# Altium integrated library Holtek Semiconductor Power Management.IntLib: 165 symbols (part 1 of 3)
Pins are listed as number, name and electrical type; pins without a type are passive.

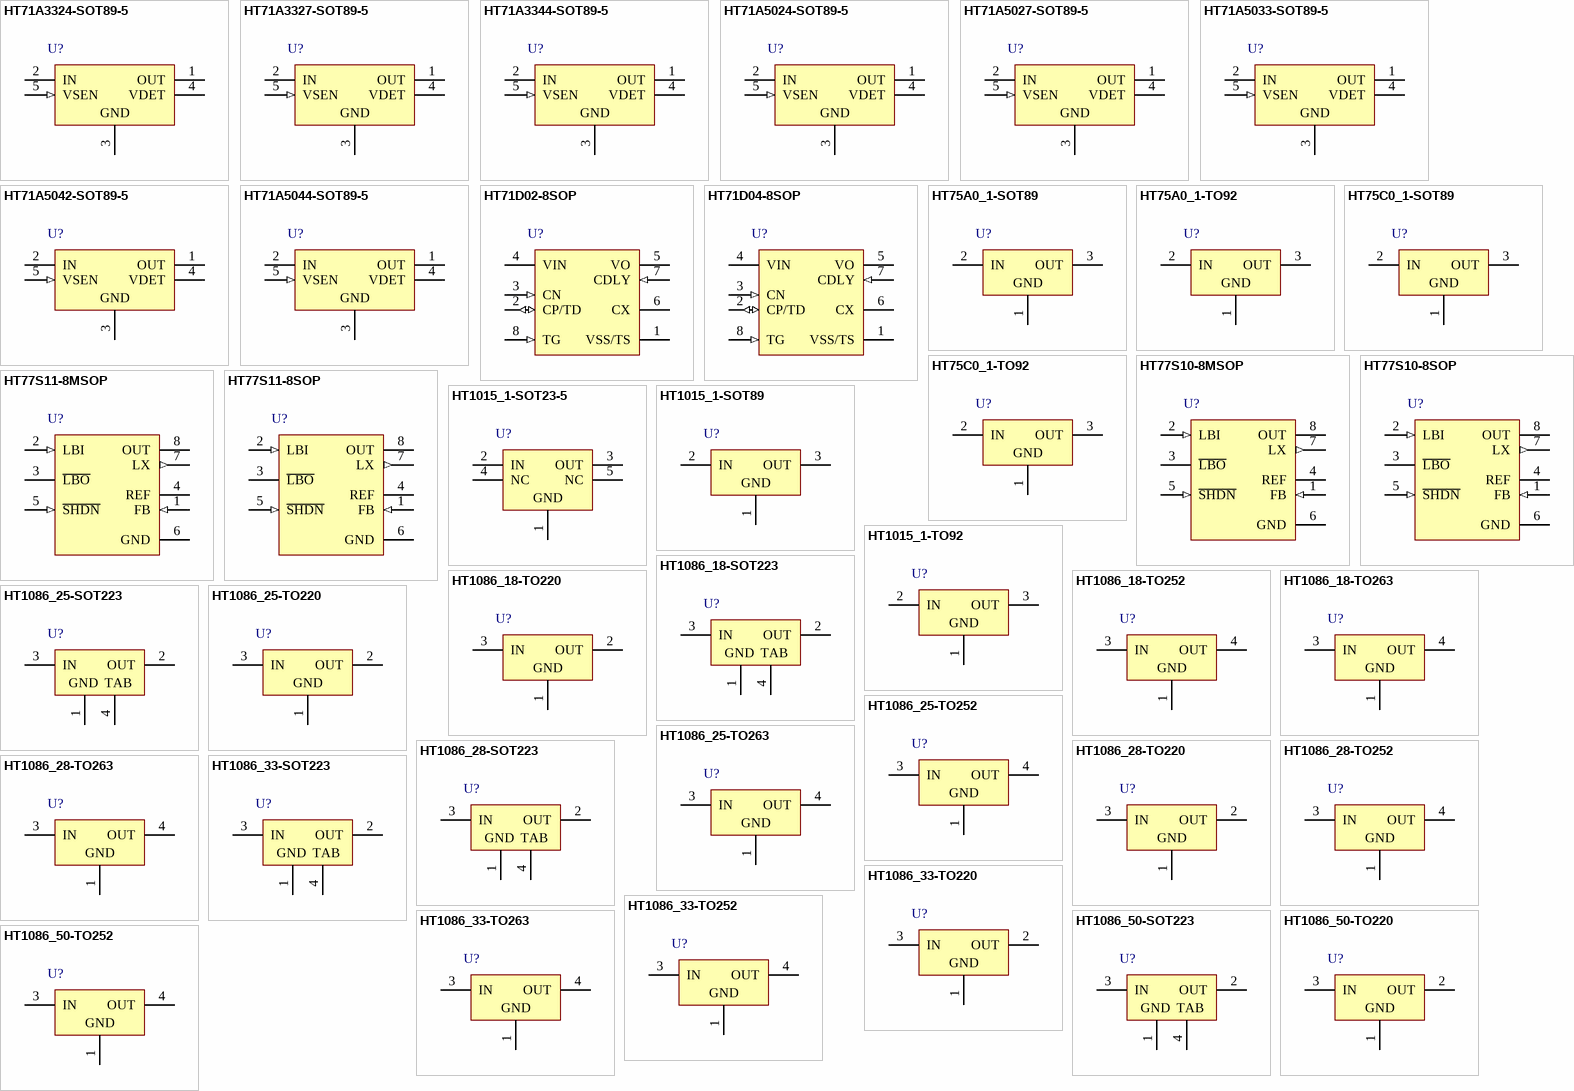
[diagram p0: symbols HT71A3324-SOT89-5 to HT1086_50-TO252]

## HT71A3324-SOT89-5
designator U?
TinyPowerTM LDO with Detector, 3.3V Regulator, 2.4V Voltage Detector, SOT89-5 Pkg; DatasheetVersion: Rev1.0, Dec-2009; PackageVersion: 25/05/2010; PackageReference: SOT89-5; PackageDescription: 5-Pin SOT-89 Package, 4.5 x 2.5 mm Body, 1.5 mm Pitch, 4.1 mm Lead Span; ComponentLink1Description: Manufacturer URL; ComponentLink1URL: http://www.holtek.com/; ComponentLink2Description: Datasheet; ComponentLink2URL: http://www.holtek.com/pdf/consumer/71axxxxv100.pdf; ComponentLink3Description: Package Specification; ComponentLink3URL: http://www.holtek.com/english/literature/package.pdf
footprint SOT89-5_N (SOT89, 5-Leads, Body 4.5x2.5 mm, Pitch 1.5mm, Lead Span 4.1mm, IPC Medium Density)
footprint SOT89-5_L (SOT89, 5-Leads, Body 4.5x2.5 mm, Pitch 1.5mm, Lead Span 4.1mm, IPC High Density)
footprint SOT89-5_M (SOT89, 5-Leads, Body 4.5x2.5 mm, Pitch 1.5mm, Lead Span 4.1mm, IPC Low Density)
pins: 1 OUT (power), 2 IN (power), 3 GND (power), 4 VDET (oe), 5 VSEN (in)

## HT71A3327-SOT89-5
designator U?
TinyPowerTM LDO with Detector, 3.3V Regulator, 2.7V Voltage Detector, SOT89-5 Pkg; DatasheetVersion: Rev1.0, Dec-2009; PackageVersion: 25/05/2010; PackageReference: SOT89-5; PackageDescription: 5-Pin SOT-89 Package, 4.5 x 2.5 mm Body, 1.5 mm Pitch, 4.1 mm Lead Span; ComponentLink1Description: Manufacturer URL; ComponentLink1URL: http://www.holtek.com/; ComponentLink2Description: Datasheet; ComponentLink2URL: http://www.holtek.com/pdf/consumer/71axxxxv100.pdf; ComponentLink3Description: Package Specification; ComponentLink3URL: http://www.holtek.com/english/literature/package.pdf
footprint SOT89-5_N (SOT89, 5-Leads, Body 4.5x2.5 mm, Pitch 1.5mm, Lead Span 4.1mm, IPC Medium Density)
footprint SOT89-5_L (SOT89, 5-Leads, Body 4.5x2.5 mm, Pitch 1.5mm, Lead Span 4.1mm, IPC High Density)
footprint SOT89-5_M (SOT89, 5-Leads, Body 4.5x2.5 mm, Pitch 1.5mm, Lead Span 4.1mm, IPC Low Density)
pins: 1 OUT (power), 2 IN (power), 3 GND (power), 4 VDET (oe), 5 VSEN (in)

## HT71A3344-SOT89-5
designator U?
TinyPowerTM LDO with Detector, 3.3V Regulator, 4.4V Voltage Detector, SOT89-5 Pkg; DatasheetVersion: Rev1.0, Dec-2009; PackageVersion: 25/05/2010; PackageReference: SOT89-5; PackageDescription: 5-Pin SOT-89 Package, 4.5 x 2.5 mm Body, 1.5 mm Pitch, 4.1 mm Lead Span; ComponentLink1Description: Manufacturer URL; ComponentLink1URL: http://www.holtek.com/; ComponentLink2Description: Datasheet; ComponentLink2URL: http://www.holtek.com/pdf/consumer/71axxxxv100.pdf; ComponentLink3Description: Package Specification; ComponentLink3URL: http://www.holtek.com/english/literature/package.pdf
footprint SOT89-5_N (SOT89, 5-Leads, Body 4.5x2.5 mm, Pitch 1.5mm, Lead Span 4.1mm, IPC Medium Density)
footprint SOT89-5_L (SOT89, 5-Leads, Body 4.5x2.5 mm, Pitch 1.5mm, Lead Span 4.1mm, IPC High Density)
footprint SOT89-5_M (SOT89, 5-Leads, Body 4.5x2.5 mm, Pitch 1.5mm, Lead Span 4.1mm, IPC Low Density)
pins: 1 OUT (power), 2 IN (power), 3 GND (power), 4 VDET (oe), 5 VSEN (in)

## HT71A5024-SOT89-5
designator U?
TinyPowerTM LDO with Detector, 5.0V Regulator, 2.4V Voltage Detector, SOT89-5 Pkg; DatasheetVersion: Rev1.0, Dec-2009; PackageVersion: 25/05/2010; PackageReference: SOT89-5; PackageDescription: 5-Pin SOT-89 Package, 4.5 x 2.5 mm Body, 1.5 mm Pitch, 4.1 mm Lead Span; ComponentLink1Description: Manufacturer URL; ComponentLink1URL: http://www.holtek.com/; ComponentLink2Description: Datasheet; ComponentLink2URL: http://www.holtek.com/pdf/consumer/71axxxxv100.pdf; ComponentLink3Description: Package Specification; ComponentLink3URL: http://www.holtek.com/english/literature/package.pdf
footprint SOT89-5_N (SOT89, 5-Leads, Body 4.5x2.5 mm, Pitch 1.5mm, Lead Span 4.1mm, IPC Medium Density)
footprint SOT89-5_L (SOT89, 5-Leads, Body 4.5x2.5 mm, Pitch 1.5mm, Lead Span 4.1mm, IPC High Density)
footprint SOT89-5_M (SOT89, 5-Leads, Body 4.5x2.5 mm, Pitch 1.5mm, Lead Span 4.1mm, IPC Low Density)
pins: 1 OUT (power), 2 IN (power), 3 GND (power), 4 VDET (oe), 5 VSEN (in)

## HT71A5027-SOT89-5
designator U?
TinyPowerTM LDO with Detector, 5.0V Regulator, 2.7V Voltage Detector, SOT89-5 Pkg; DatasheetVersion: Rev1.0, Dec-2009; PackageVersion: 25/05/2010; PackageReference: SOT89-5; PackageDescription: 5-Pin SOT-89 Package, 4.5 x 2.5 mm Body, 1.5 mm Pitch, 4.1 mm Lead Span; ComponentLink1Description: Manufacturer URL; ComponentLink1URL: http://www.holtek.com/; ComponentLink2Description: Datasheet; ComponentLink2URL: http://www.holtek.com/pdf/consumer/71axxxxv100.pdf; ComponentLink3Description: Package Specification; ComponentLink3URL: http://www.holtek.com/english/literature/package.pdf
footprint SOT89-5_N (SOT89, 5-Leads, Body 4.5x2.5 mm, Pitch 1.5mm, Lead Span 4.1mm, IPC Medium Density)
footprint SOT89-5_L (SOT89, 5-Leads, Body 4.5x2.5 mm, Pitch 1.5mm, Lead Span 4.1mm, IPC High Density)
footprint SOT89-5_M (SOT89, 5-Leads, Body 4.5x2.5 mm, Pitch 1.5mm, Lead Span 4.1mm, IPC Low Density)
pins: 1 OUT (power), 2 IN (power), 3 GND (power), 4 VDET (oe), 5 VSEN (in)

## HT71A5033-SOT89-5
designator U?
TinyPowerTM LDO with Detector, 5.0V Regulator, 3.3V Voltage Detector, SOT89-5 Pkg; DatasheetVersion: Rev1.0, Dec-2009; PackageVersion: 25/05/2010; PackageReference: SOT89-5; PackageDescription: 5-Pin SOT-89 Package, 4.5 x 2.5 mm Body, 1.5 mm Pitch, 4.1 mm Lead Span; ComponentLink1Description: Manufacturer URL; ComponentLink1URL: http://www.holtek.com/; ComponentLink2Description: Datasheet; ComponentLink2URL: http://www.holtek.com/pdf/consumer/71axxxxv100.pdf; ComponentLink3Description: Package Specification; ComponentLink3URL: http://www.holtek.com/english/literature/package.pdf
footprint SOT89-5_N (SOT89, 5-Leads, Body 4.5x2.5 mm, Pitch 1.5mm, Lead Span 4.1mm, IPC Medium Density)
footprint SOT89-5_L (SOT89, 5-Leads, Body 4.5x2.5 mm, Pitch 1.5mm, Lead Span 4.1mm, IPC High Density)
footprint SOT89-5_M (SOT89, 5-Leads, Body 4.5x2.5 mm, Pitch 1.5mm, Lead Span 4.1mm, IPC Low Density)
pins: 1 OUT (power), 2 IN (power), 3 GND (power), 4 VDET (oe), 5 VSEN (in)

## HT71A5042-SOT89-5
designator U?
TinyPowerTM LDO with Detector, 5.0V Regulator, 4.2V Voltage Detector, SOT89-5 Pkg; DatasheetVersion: Rev1.0, Dec-2009; PackageVersion: 25/05/2010; PackageReference: SOT89-5; PackageDescription: 5-Pin SOT-89 Package, 4.5 x 2.5 mm Body, 1.5 mm Pitch, 4.1 mm Lead Span; ComponentLink1Description: Manufacturer URL; ComponentLink1URL: http://www.holtek.com/; ComponentLink2Description: Datasheet; ComponentLink2URL: http://www.holtek.com/pdf/consumer/71axxxxv100.pdf; ComponentLink3Description: Package Specification; ComponentLink3URL: http://www.holtek.com/english/literature/package.pdf
footprint SOT89-5_N (SOT89, 5-Leads, Body 4.5x2.5 mm, Pitch 1.5mm, Lead Span 4.1mm, IPC Medium Density)
footprint SOT89-5_L (SOT89, 5-Leads, Body 4.5x2.5 mm, Pitch 1.5mm, Lead Span 4.1mm, IPC High Density)
footprint SOT89-5_M (SOT89, 5-Leads, Body 4.5x2.5 mm, Pitch 1.5mm, Lead Span 4.1mm, IPC Low Density)
pins: 1 OUT (power), 2 IN (power), 3 GND (power), 4 VDET (oe), 5 VSEN (in)

## HT71A5044-SOT89-5
designator U?
TinyPowerTM LDO with Detector, 5.0V Regulator, 4.4V Voltage Detector, SOT89-5 Pkg; DatasheetVersion: Rev1.0, Dec-2009; PackageVersion: 25/05/2010; PackageReference: SOT89-5; PackageDescription: 5-Pin SOT-89 Package, 4.5 x 2.5 mm Body, 1.5 mm Pitch, 4.1 mm Lead Span; ComponentLink1Description: Manufacturer URL; ComponentLink1URL: http://www.holtek.com/; ComponentLink2Description: Datasheet; ComponentLink2URL: http://www.holtek.com/pdf/consumer/71axxxxv100.pdf; ComponentLink3Description: Package Specification; ComponentLink3URL: http://www.holtek.com/english/literature/package.pdf
footprint SOT89-5_N (SOT89, 5-Leads, Body 4.5x2.5 mm, Pitch 1.5mm, Lead Span 4.1mm, IPC Medium Density)
footprint SOT89-5_L (SOT89, 5-Leads, Body 4.5x2.5 mm, Pitch 1.5mm, Lead Span 4.1mm, IPC High Density)
footprint SOT89-5_M (SOT89, 5-Leads, Body 4.5x2.5 mm, Pitch 1.5mm, Lead Span 4.1mm, IPC Low Density)
pins: 1 OUT (power), 2 IN (power), 3 GND (power), 4 VDET (oe), 5 VSEN (in)

## HT71D02-8SOP
designator U?
Power Line Data Transceiver, 3.3V Regulator, 8SOP Pkg; DatasheetVersion: Rev1.0, Jun-2010; PackageVersion: 25/05/2010; PackageReference: 8SOP; PackageDescription: 8-Pin Small Outline Package, 150mil Wide, 1.27 mm Pitch; Code_JEDEC: MS-012; Code_IPC: SOIC127P600-8; ComponentLink1Description: Manufacturer URL; ComponentLink1URL: http://www.holtek.com/; ComponentLink2Description: Datasheet; ComponentLink2URL: http://www.holtek.com/pdf/uc/71d0xv100.pdf; ComponentLink3Description: Package Specification; ComponentLink3URL: http://www.holtek.com/english/literature/package.pdf
footprint 8SOP_N (SOIC, 8-Leads, Body 4.9x3.9mm, Pitch 1.27mm, IPC Medium Density)
footprint 8SOP_L (SOIC, 8-Leads, Body 4.9x3.9mm, Pitch 1.27mm, IPC High Density)
footprint 8SOP_M (SOIC, 8-Leads, Body 4.9x3.9mm, Pitch 1.27mm, IPC Low Density)
pins: 1 VSS/TS (power), 2 CP/TD (io), 3 CN (in), 4 VIN (power), 5 VO (power), 6 CX (oc), 7 CDLY (in), 8 TG (in)

## HT71D04-8SOP
designator U?
Power Line Data Transceiver, 5.0V Regulator, 8SOP Pkg; DatasheetVersion: Rev1.0, Jun-2010; PackageVersion: 25/05/2010; PackageReference: 8SOP; PackageDescription: 8-Pin Small Outline Package, 150mil Wide, 1.27 mm Pitch; Code_JEDEC: MS-012; Code_IPC: SOIC127P600-8; ComponentLink1Description: Manufacturer URL; ComponentLink1URL: http://www.holtek.com/; ComponentLink2Description: Datasheet; ComponentLink2URL: http://www.holtek.com/pdf/uc/71d0xv100.pdf; ComponentLink3Description: Package Specification; ComponentLink3URL: http://www.holtek.com/english/literature/package.pdf
footprint 8SOP_N (SOIC, 8-Leads, Body 4.9x3.9mm, Pitch 1.27mm, IPC Medium Density)
footprint 8SOP_L (SOIC, 8-Leads, Body 4.9x3.9mm, Pitch 1.27mm, IPC High Density)
footprint 8SOP_M (SOIC, 8-Leads, Body 4.9x3.9mm, Pitch 1.27mm, IPC Low Density)
pins: 1 VSS/TS (power), 2 CP/TD (io), 3 CN (in), 4 VIN (power), 5 VO (power), 6 CX (oc), 7 CDLY (in), 8 TG (in)

## HT75A0_1-SOT89
designator U?
100mA Low Power LDO, Output Voltage 10.0V, SOT89 Pkg; DatasheetVersion: Rev1.80, Mar-2010; PackageVersion: 25/05/2010; PackageReference: SOT89; PackageDescription: 3-Pin SOT-89 Package 1.5 mm Pitch, 4.1 mm Lead Span; Code_IPC: SOT89; ComponentLink1Description: Manufacturer URL; ComponentLink1URL: http://www.holtek.com/; ComponentLink2Description: Datasheet; ComponentLink2URL: http://www.holtek.com/pdf/consumer/75xx_1v180.pdf; ComponentLink3Description: Package Specification; ComponentLink3URL: http://www.holtek.com/english/literature/package.pdf
footprint SOT89_N (SOT89, 3-Leads, Body 4.5x2.4 mm, Pitch 1.5mm, Lead Span 4.1mm, IPC Medium Density)
footprint SOT89_L (SOT89, 3-Leads, Body 4.5x2.4 mm, Pitch 1.5mm, Lead Span 4.1mm, IPC High Density)
footprint SOT89_M (SOT89, 3-Leads, Body 4.5x2.4 mm, Pitch 1.5mm, Lead Span 4.1mm, IPC Low Density)
pins: 1 GND (power), 2 IN (power), 3 OUT (power)

## HT75A0_1-TO92
designator U?
100mA Low Power LDO, Output Voltage 10.0V, TO92 Pkg; DatasheetVersion: Rev1.80, Mar-2010; PackageVersion: 25/05/2010; PackageReference: TO92; PackageDescription: 3-pin TO92, Body Dia. 4.7mm; Lead Dia. 0.51 mm (max); ComponentLink1Description: Manufacturer URL; ComponentLink1URL: http://www.holtek.com/; ComponentLink2Description: Datasheet; ComponentLink2URL: http://www.holtek.com/pdf/consumer/75xx_1v180.pdf; ComponentLink3Description: Package Specification; ComponentLink3URL: http://www.holtek.com/english/literature/package.pdf
footprint TO92 (TO, Flat Index; 3 In-Line, Axial Leads; Body Dia. 4.7mm; Lead Dia. 0.51 mm (max))
pins: 1 GND (power), 2 IN (power), 3 OUT (power)

## HT75C0_1-SOT89
designator U?
100mA Low Power LDO, Output Voltage 12.0V, SOT89 Pkg; DatasheetVersion: Rev1.80, Mar-2010; PackageVersion: 25/05/2010; PackageReference: SOT89; PackageDescription: 3-Pin SOT-89 Package 1.5 mm Pitch, 4.1 mm Lead Span; Code_IPC: SOT89; ComponentLink1Description: Manufacturer URL; ComponentLink1URL: http://www.holtek.com/; ComponentLink2Description: Datasheet; ComponentLink2URL: http://www.holtek.com/pdf/consumer/75xx_1v180.pdf; ComponentLink3Description: Package Specification; ComponentLink3URL: http://www.holtek.com/english/literature/package.pdf
footprint SOT89_N (SOT89, 3-Leads, Body 4.5x2.4 mm, Pitch 1.5mm, Lead Span 4.1mm, IPC Medium Density)
footprint SOT89_L (SOT89, 3-Leads, Body 4.5x2.4 mm, Pitch 1.5mm, Lead Span 4.1mm, IPC High Density)
footprint SOT89_M (SOT89, 3-Leads, Body 4.5x2.4 mm, Pitch 1.5mm, Lead Span 4.1mm, IPC Low Density)
pins: 1 GND (power), 2 IN (power), 3 OUT (power)

## HT75C0_1-TO92
designator U?
100mA Low Power LDO, Output Voltage 12.0V, TO92 Pkg; DatasheetVersion: Rev1.80, Mar-2010; PackageVersion: 25/05/2010; PackageReference: TO92; PackageDescription: 3-pin TO92, Body Dia. 4.7mm; Lead Dia. 0.51 mm (max); ComponentLink1Description: Manufacturer URL; ComponentLink1URL: http://www.holtek.com/; ComponentLink2Description: Datasheet; ComponentLink2URL: http://www.holtek.com/pdf/consumer/75xx_1v180.pdf; ComponentLink3Description: Package Specification; ComponentLink3URL: http://www.holtek.com/english/literature/package.pdf
footprint TO92 (TO, Flat Index; 3 In-Line, Axial Leads; Body Dia. 4.7mm; Lead Dia. 0.51 mm (max))
pins: 1 GND (power), 2 IN (power), 3 OUT (power)

## HT77S10-8MSOP
designator U?
High Efficiency Synchronous Step-Up DC/DC Converter, Io=230-350mA, 8MSOP Pkg; DatasheetVersion: Rev1.10, Mar-2010; PackageVersion: 25/05/2010; PackageReference: 8MSOP; PackageDescription: 8-Pin Thin Shrink Small Outline Package, 3 x 3 mm Body, 0.65 mm Pitch [MSOP]; Code_JEDEC: MO-187-AA; ComponentLink1Description: Manufacturer URL; ComponentLink1URL: http://www.holtek.com/; ComponentLink2Description: Datasheet; ComponentLink2URL: http://www.holtek.com/pdf/consumer/77s1xv110.pdf; ComponentLink3Description: Package Specification; ComponentLink3URL: http://www.holtek.com/english/literature/package.pdf
footprint 8MSOP_N (TSOP, 8-Leads, Body 3x3mm, Pitch 0.65mm, IPC Medium Density)
footprint 8MSOP_L (TSOP, 8-Leads, Body 3x3mm, Pitch 0.65mm, IPC High Density)
footprint 8MSOP_M (TSOP, 8-Leads, Body 3x3mm, Pitch 0.65mm, IPC Low Density)
pins: 1 FB (in), 2 LBI (in), 3 ~{LBO} (oc), 4 REF (power), 5 ~{SHDN} (in), 6 GND (power), 7 LX (out), 8 OUT (power)

## HT77S10-8SOP
designator U?
High Efficiency Synchronous Step-Up DC/DC Converter, Io=230-350mA, 8SOP Pkg; DatasheetVersion: Rev1.10, Mar-2010; PackageVersion: 25/05/2010; PackageReference: 8SOP; PackageDescription: 8-Pin Small Outline Package, 150mil Wide, 1.27 mm Pitch; Code_JEDEC: MS-012; Code_IPC: SOIC127P600-8; ComponentLink1Description: Manufacturer URL; ComponentLink1URL: http://www.holtek.com/; ComponentLink2Description: Datasheet; ComponentLink2URL: http://www.holtek.com/pdf/consumer/77s1xv110.pdf; ComponentLink3Description: Package Specification; ComponentLink3URL: http://www.holtek.com/english/literature/package.pdf
footprint 8SOP_N (SOIC, 8-Leads, Body 4.9x3.9mm, Pitch 1.27mm, IPC Medium Density)
footprint 8SOP_L (SOIC, 8-Leads, Body 4.9x3.9mm, Pitch 1.27mm, IPC High Density)
footprint 8SOP_M (SOIC, 8-Leads, Body 4.9x3.9mm, Pitch 1.27mm, IPC Low Density)
pins: 1 FB (in), 2 LBI (in), 3 ~{LBO} (oc), 4 REF (power), 5 ~{SHDN} (in), 6 GND (power), 7 LX (out), 8 OUT (power)

## HT77S11-8MSOP
designator U?
High Efficiency Synchronous Step-Up DC/DC Converter, Io=160-300mA, 8MSOP Pkg; DatasheetVersion: Rev1.10, Mar-2010; PackageVersion: 25/05/2010; PackageReference: 8MSOP; PackageDescription: 8-Pin Thin Shrink Small Outline Package, 3 x 3 mm Body, 0.65 mm Pitch [MSOP]; Code_JEDEC: MO-187-AA; ComponentLink1Description: Manufacturer URL; ComponentLink1URL: http://www.holtek.com/; ComponentLink2Description: Datasheet; ComponentLink2URL: http://www.holtek.com/pdf/consumer/77s1xv110.pdf; ComponentLink3Description: Package Specification; ComponentLink3URL: http://www.holtek.com/english/literature/package.pdf
footprint 8MSOP_N (TSOP, 8-Leads, Body 3x3mm, Pitch 0.65mm, IPC Medium Density)
footprint 8MSOP_L (TSOP, 8-Leads, Body 3x3mm, Pitch 0.65mm, IPC High Density)
footprint 8MSOP_M (TSOP, 8-Leads, Body 3x3mm, Pitch 0.65mm, IPC Low Density)
pins: 1 FB (in), 2 LBI (in), 3 ~{LBO} (oc), 4 REF (power), 5 ~{SHDN} (in), 6 GND (power), 7 LX (out), 8 OUT (power)

## HT77S11-8SOP
designator U?
High Efficiency Synchronous Step-Up DC/DC Converter, Io=160-300mA, 8SOP Pkg; DatasheetVersion: Rev1.10, Mar-2010; PackageVersion: 25/05/2010; PackageReference: 8SOP; PackageDescription: 8-Pin Small Outline Package, 150mil Wide, 1.27 mm Pitch; Code_JEDEC: MS-012; Code_IPC: SOIC127P600-8; ComponentLink1Description: Manufacturer URL; ComponentLink1URL: http://www.holtek.com/; ComponentLink2Description: Datasheet; ComponentLink2URL: http://www.holtek.com/pdf/consumer/77s1xv110.pdf; ComponentLink3Description: Package Specification; ComponentLink3URL: http://www.holtek.com/english/literature/package.pdf
footprint 8SOP_N (SOIC, 8-Leads, Body 4.9x3.9mm, Pitch 1.27mm, IPC Medium Density)
footprint 8SOP_L (SOIC, 8-Leads, Body 4.9x3.9mm, Pitch 1.27mm, IPC High Density)
footprint 8SOP_M (SOIC, 8-Leads, Body 4.9x3.9mm, Pitch 1.27mm, IPC Low Density)
pins: 1 FB (in), 2 LBI (in), 3 ~{LBO} (oc), 4 REF (power), 5 ~{SHDN} (in), 6 GND (power), 7 LX (out), 8 OUT (power)

## HT1015_1-SOT23-5
designator U?
1.5V Low Power LDO, SOT23-5 Pkg; DatasheetVersion: Rev1.30, Feb-2009; PackageVersion: 25/05/2010; PackageReference: SOT23-5; PackageDescription: 5-Pin SOT-23 Package 0.95 mm Pitch, 2.8 mm Lead Span; Code_IPC: SOT23-5; ComponentLink1Description: Manufacturer URL; ComponentLink1URL: http://www.holtek.com/; ComponentLink2Description: Datasheet; ComponentLink2URL: http://www.holtek.com/pdf/consumer/1015_1v130.pdf; ComponentLink3Description: Package Specification; ComponentLink3URL: http://www.holtek.com/english/literature/package.pdf
footprint SOT23-5_N (SOT23, 5-Leads, Body 2.9x1.6mm, Pitch 0.95mm, Lead Span 2.8mm, IPC Medium Density)
footprint SOT23-5_L (SOT23, 5-Leads, Body 2.9x1.6mm, Pitch 0.95mm, Lead Span 2.8mm, IPC High Density)
footprint SOT23-5_M (SOT23, 5-Leads, Body 2.9x1.6mm, Pitch 0.95mm, Lead Span 2.8mm, IPC Low Density)
pins: 1 GND (power), 2 IN (power), 3 OUT (power), 4 NC, 5 NC

## HT1015_1-SOT89
designator U?
1.5V Low Power LDO, SOT89 Pkg; DatasheetVersion: Rev1.30, Feb-2009; PackageVersion: 25/05/2010; PackageReference: SOT89; PackageDescription: 3-Pin SOT-89 Package 1.5 mm Pitch, 4.1 mm Lead Span; Code_IPC: SOT89; ComponentLink1Description: Manufacturer URL; ComponentLink1URL: http://www.holtek.com/; ComponentLink2Description: Datasheet; ComponentLink2URL: http://www.holtek.com/pdf/consumer/1015_1v130.pdf; ComponentLink3Description: Package Specification; ComponentLink3URL: http://www.holtek.com/english/literature/package.pdf
footprint SOT89_N (SOT89, 3-Leads, Body 4.5x2.4 mm, Pitch 1.5mm, Lead Span 4.1mm, IPC Medium Density)
footprint SOT89_L (SOT89, 3-Leads, Body 4.5x2.4 mm, Pitch 1.5mm, Lead Span 4.1mm, IPC High Density)
footprint SOT89_M (SOT89, 3-Leads, Body 4.5x2.4 mm, Pitch 1.5mm, Lead Span 4.1mm, IPC Low Density)
pins: 1 GND (power), 2 IN (power), 3 OUT (power)

## HT1015_1-TO92
designator U?
1.5V Low Power LDO, TO92 Pkg; DatasheetVersion: Rev1.30, Feb-2009; PackageVersion: 25/05/2010; PackageReference: TO92; PackageDescription: 3-pin TO92, Body Dia. 4.7mm; Lead Dia. 0.51 mm (max); ComponentLink1Description: Manufacturer URL; ComponentLink1URL: http://www.holtek.com/; ComponentLink2Description: Datasheet; ComponentLink2URL: http://www.holtek.com/pdf/consumer/1015_1v130.pdf; ComponentLink3Description: Package Specification; ComponentLink3URL: http://www.holtek.com/english/literature/package.pdf
footprint TO92 (TO, Flat Index; 3 In-Line, Axial Leads; Body Dia. 4.7mm; Lead Dia. 0.51 mm (max))
pins: 1 GND (power), 2 IN (power), 3 OUT (power)

## HT1086_18-SOT223
designator U?
1.5A General Purpose LDO, Output Voltage 1.8V, SOT223 Pkg; DatasheetVersion: Rev1.10, Feb-2008; PackageVersion: 25/05/2010; PackageReference: SOT223; PackageDescription: 4-Pin SOT-223 Package, 6.5 x 3.5 mm Body, 2.3 mm Pitch, 7 mm Lead Span; ComponentLink1Description: Manufacturer URL; ComponentLink1URL: http://www.holtek.com/; ComponentLink2Description: Datasheet; ComponentLink2URL: http://www.holtek.com/pdf/consumer/1086v110.pdf; ComponentLink3Description: Package Specification; ComponentLink3URL: http://www.holtek.com/english/literature/package.pdf
footprint SOT223_N (SOT223, 4-Leads, Body 6.5x3.5mm, Pitch 2.3mm, Lead Span 7mm, IPC Medium Density)
footprint SOT223_L (SOT223, 4-Leads, Body 6.5x3.5mm, Pitch 2.3mm, Lead Span 7mm, IPC High Density)
footprint SOT223_M (SOT223, 4-Leads, Body 6.5x3.5mm, Pitch 2.3mm, Lead Span 7mm, IPC Low Density)
pins: 1 GND (power), 2 OUT (power), 3 IN (power), 4 TAB (power)

## HT1086_18-TO220
designator U?
1.5A General Purpose LDO, Output Voltage 1.8V, TO220 Pkg; DatasheetVersion: Rev1.10, Feb-2008; PackageVersion: 25/05/2010; PackageReference: TO220; PackageDescription: TO, Thru-Hole, Vertical, Heatsink Mounted; 3 In-Line Leads; Pitch 2.54 mm; ComponentLink1Description: Manufacturer URL; ComponentLink1URL: http://www.holtek.com/; ComponentLink2Description: Datasheet; ComponentLink2URL: http://www.holtek.com/pdf/consumer/1086v110.pdf; ComponentLink3Description: Package Specification; ComponentLink3URL: http://www.holtek.com/english/literature/package.pdf
footprint TO220 (TO, Thru-Hole, Vertical, Heatsink Mounted; 3 In-Line Leads; Pitch 2.54 mm)
pins: 1 GND (power), 2 OUT (power), 3 IN (power)

## HT1086_18-TO252
designator U?
1.5A General Purpose LDO, Output Voltage 1.8V, TO252 Pkg; DatasheetVersion: Rev1.10, Feb-2008; PackageVersion: 25/05/2010; PackageReference: TO252; PackageDescription: 3-Pin Transistor Outline Package, 6.1 x 6.6 x 2.3 mm Body, 2.28 mm Pitch, 10 mm Lead Span; ComponentLink1Description: Manufacturer URL; ComponentLink1URL: http://www.holtek.com/; ComponentLink2Description: Datasheet; ComponentLink2URL: http://www.holtek.com/pdf/consumer/1086v110.pdf; ComponentLink3Description: Package Specification; ComponentLink3URL: http://www.holtek.com/english/literature/package.pdf
footprint TO252_N (D-PAK, 4-Leads, Body 6.1x6.6mm, Pitch 2.28mm, Lead Span 10mm, IPC Medium Density)
footprint TO252_L (D-PAK, 4-Leads, Body 6.1x6.6mm, Pitch 2.28mm, Lead Span 10mm, IPC High Density)
footprint TO252_M (D-PAK, 4-Leads, Body 6.1x6.6mm, Pitch 2.28mm, Lead Span 10mm, IPC Low Density)
pins: 1 GND (power), 3 IN (power), 4 OUT (power)

## HT1086_18-TO263
designator U?
1.5A General Purpose LDO, Output Voltage 1.8V, TO263 Pkg; DatasheetVersion: Rev1.10, Feb-2008; PackageVersion: 25/05/2010; PackageReference: TO263; PackageDescription: 3-Pin Transistor Outline Package, 9.1 x 10.2 x 4.5 mm Body, 2.54 mm Pitch, 15.2 mm Lead Span [DD2-PAK]; ComponentLink1Description: Manufacturer URL; ComponentLink1URL: http://www.holtek.com/; ComponentLink2Description: Datasheet; ComponentLink2URL: http://www.holtek.com/pdf/consumer/1086v110.pdf; ComponentLink3Description: Package Specification; ComponentLink3URL: http://www.holtek.com/english/literature/package.pdf
footprint TO263_N (D2-PAK, 4-Leads, Body 9.1x10.2mm, Pitch 2.54mm, Lead Span 15.2mm, IPC Medium Density)
footprint TO263_L (D2-PAK, 4-Leads, Body 9.1x10.2mm, Pitch 2.54mm, Lead Span 15.2mm, IPC High Density)
footprint TO263_M (D2-PAK, 4-Leads, Body 9.1x10.2mm, Pitch 2.54mm, Lead Span 15.2mm, IPC Low Density)
pins: 1 GND (power), 3 IN (power), 4 OUT (power)

## HT1086_25-SOT223
designator U?
1.5A General Purpose LDO, Output Voltage 2.5V, SOT223 Pkg; DatasheetVersion: Rev1.10, Feb-2008; PackageVersion: 25/05/2010; PackageReference: SOT223; PackageDescription: 4-Pin SOT-223 Package, 6.5 x 3.5 mm Body, 2.3 mm Pitch, 7 mm Lead Span; ComponentLink1Description: Manufacturer URL; ComponentLink1URL: http://www.holtek.com/; ComponentLink2Description: Datasheet; ComponentLink2URL: http://www.holtek.com/pdf/consumer/1086v110.pdf; ComponentLink3Description: Package Specification; ComponentLink3URL: http://www.holtek.com/english/literature/package.pdf
footprint SOT223_N (SOT223, 4-Leads, Body 6.5x3.5mm, Pitch 2.3mm, Lead Span 7mm, IPC Medium Density)
footprint SOT223_L (SOT223, 4-Leads, Body 6.5x3.5mm, Pitch 2.3mm, Lead Span 7mm, IPC High Density)
footprint SOT223_M (SOT223, 4-Leads, Body 6.5x3.5mm, Pitch 2.3mm, Lead Span 7mm, IPC Low Density)
pins: 1 GND (power), 2 OUT (power), 3 IN (power), 4 TAB (power)

## HT1086_25-TO220
designator U?
1.5A General Purpose LDO, Output Voltage 2.5V, TO220 Pkg; DatasheetVersion: Rev1.10, Feb-2008; PackageVersion: 25/05/2010; PackageReference: TO220; PackageDescription: TO, Thru-Hole, Vertical, Heatsink Mounted; 3 In-Line Leads; Pitch 2.54 mm; ComponentLink1Description: Manufacturer URL; ComponentLink1URL: http://www.holtek.com/; ComponentLink2Description: Datasheet; ComponentLink2URL: http://www.holtek.com/pdf/consumer/1086v110.pdf; ComponentLink3Description: Package Specification; ComponentLink3URL: http://www.holtek.com/english/literature/package.pdf
footprint TO220 (TO, Thru-Hole, Vertical, Heatsink Mounted; 3 In-Line Leads; Pitch 2.54 mm)
pins: 1 GND (power), 2 OUT (power), 3 IN (power)

## HT1086_25-TO252
designator U?
1.5A General Purpose LDO, Output Voltage 2.5V, TO252 Pkg; DatasheetVersion: Rev1.10, Feb-2008; PackageVersion: 25/05/2010; PackageReference: TO252; PackageDescription: 3-Pin Transistor Outline Package, 6.1 x 6.6 x 2.3 mm Body, 2.28 mm Pitch, 10 mm Lead Span; ComponentLink1Description: Manufacturer URL; ComponentLink1URL: http://www.holtek.com/; ComponentLink2Description: Datasheet; ComponentLink2URL: http://www.holtek.com/pdf/consumer/1086v110.pdf; ComponentLink3Description: Package Specification; ComponentLink3URL: http://www.holtek.com/english/literature/package.pdf
footprint TO252_N (D-PAK, 4-Leads, Body 6.1x6.6mm, Pitch 2.28mm, Lead Span 10mm, IPC Medium Density)
footprint TO252_L (D-PAK, 4-Leads, Body 6.1x6.6mm, Pitch 2.28mm, Lead Span 10mm, IPC High Density)
footprint TO252_M (D-PAK, 4-Leads, Body 6.1x6.6mm, Pitch 2.28mm, Lead Span 10mm, IPC Low Density)
pins: 1 GND (power), 3 IN (power), 4 OUT (power)

## HT1086_25-TO263
designator U?
1.5A General Purpose LDO, Output Voltage 2.5V, TO263 Pkg; DatasheetVersion: Rev1.10, Feb-2008; PackageVersion: 25/05/2010; PackageReference: TO263; PackageDescription: 3-Pin Transistor Outline Package, 9.1 x 10.2 x 4.5 mm Body, 2.54 mm Pitch, 15.2 mm Lead Span [DD2-PAK]; ComponentLink1Description: Manufacturer URL; ComponentLink1URL: http://www.holtek.com/; ComponentLink2Description: Datasheet; ComponentLink2URL: http://www.holtek.com/pdf/consumer/1086v110.pdf; ComponentLink3Description: Package Specification; ComponentLink3URL: http://www.holtek.com/english/literature/package.pdf
footprint TO263_N (D2-PAK, 4-Leads, Body 9.1x10.2mm, Pitch 2.54mm, Lead Span 15.2mm, IPC Medium Density)
footprint TO263_L (D2-PAK, 4-Leads, Body 9.1x10.2mm, Pitch 2.54mm, Lead Span 15.2mm, IPC High Density)
footprint TO263_M (D2-PAK, 4-Leads, Body 9.1x10.2mm, Pitch 2.54mm, Lead Span 15.2mm, IPC Low Density)
pins: 1 GND (power), 3 IN (power), 4 OUT (power)

## HT1086_28-SOT223
designator U?
1.5A General Purpose LDO, Output Voltage 2.85V, SOT223 Pkg; DatasheetVersion: Rev1.10, Feb-2008; PackageVersion: 25/05/2010; PackageReference: SOT223; PackageDescription: 4-Pin SOT-223 Package, 6.5 x 3.5 mm Body, 2.3 mm Pitch, 7 mm Lead Span; ComponentLink1Description: Manufacturer URL; ComponentLink1URL: http://www.holtek.com/; ComponentLink2Description: Datasheet; ComponentLink2URL: http://www.holtek.com/pdf/consumer/1086v110.pdf; ComponentLink3Description: Package Specification; ComponentLink3URL: http://www.holtek.com/english/literature/package.pdf
footprint SOT223_N (SOT223, 4-Leads, Body 6.5x3.5mm, Pitch 2.3mm, Lead Span 7mm, IPC Medium Density)
footprint SOT223_L (SOT223, 4-Leads, Body 6.5x3.5mm, Pitch 2.3mm, Lead Span 7mm, IPC High Density)
footprint SOT223_M (SOT223, 4-Leads, Body 6.5x3.5mm, Pitch 2.3mm, Lead Span 7mm, IPC Low Density)
pins: 1 GND (power), 2 OUT (power), 3 IN (power), 4 TAB (power)

## HT1086_28-TO220
designator U?
1.5A General Purpose LDO, Output Voltage 2.85V, TO220 Pkg; DatasheetVersion: Rev1.10, Feb-2008; PackageVersion: 25/05/2010; PackageReference: TO220; PackageDescription: TO, Thru-Hole, Vertical, Heatsink Mounted; 3 In-Line Leads; Pitch 2.54 mm; ComponentLink1Description: Manufacturer URL; ComponentLink1URL: http://www.holtek.com/; ComponentLink2Description: Datasheet; ComponentLink2URL: http://www.holtek.com/pdf/consumer/1086v110.pdf; ComponentLink3Description: Package Specification; ComponentLink3URL: http://www.holtek.com/english/literature/package.pdf
footprint TO220 (TO, Thru-Hole, Vertical, Heatsink Mounted; 3 In-Line Leads; Pitch 2.54 mm)
pins: 1 GND (power), 2 OUT (power), 3 IN (power)

## HT1086_28-TO252
designator U?
1.5A General Purpose LDO, Output Voltage 2.85V, TO252 Pkg; DatasheetVersion: Rev1.10, Feb-2008; PackageVersion: 25/05/2010; PackageReference: TO252; PackageDescription: 3-Pin Transistor Outline Package, 6.1 x 6.6 x 2.3 mm Body, 2.28 mm Pitch, 10 mm Lead Span; ComponentLink1Description: Manufacturer URL; ComponentLink1URL: http://www.holtek.com/; ComponentLink2Description: Datasheet; ComponentLink2URL: http://www.holtek.com/pdf/consumer/1086v110.pdf; ComponentLink3Description: Package Specification; ComponentLink3URL: http://www.holtek.com/english/literature/package.pdf
footprint TO252_N (D-PAK, 4-Leads, Body 6.1x6.6mm, Pitch 2.28mm, Lead Span 10mm, IPC Medium Density)
footprint TO252_L (D-PAK, 4-Leads, Body 6.1x6.6mm, Pitch 2.28mm, Lead Span 10mm, IPC High Density)
footprint TO252_M (D-PAK, 4-Leads, Body 6.1x6.6mm, Pitch 2.28mm, Lead Span 10mm, IPC Low Density)
pins: 1 GND (power), 3 IN (power), 4 OUT (power)

## HT1086_28-TO263
designator U?
1.5A General Purpose LDO, Output Voltage 2.85V, TO263 Pkg; DatasheetVersion: Rev1.10, Feb-2008; PackageVersion: 25/05/2010; PackageReference: TO263; PackageDescription: 3-Pin Transistor Outline Package, 9.1 x 10.2 x 4.5 mm Body, 2.54 mm Pitch, 15.2 mm Lead Span [DD2-PAK]; ComponentLink1Description: Manufacturer URL; ComponentLink1URL: http://www.holtek.com/; ComponentLink2Description: Datasheet; ComponentLink2URL: http://www.holtek.com/pdf/consumer/1086v110.pdf; ComponentLink3Description: Package Specification; ComponentLink3URL: http://www.holtek.com/english/literature/package.pdf
footprint TO263_N (D2-PAK, 4-Leads, Body 9.1x10.2mm, Pitch 2.54mm, Lead Span 15.2mm, IPC Medium Density)
footprint TO263_L (D2-PAK, 4-Leads, Body 9.1x10.2mm, Pitch 2.54mm, Lead Span 15.2mm, IPC High Density)
footprint TO263_M (D2-PAK, 4-Leads, Body 9.1x10.2mm, Pitch 2.54mm, Lead Span 15.2mm, IPC Low Density)
pins: 1 GND (power), 3 IN (power), 4 OUT (power)

## HT1086_33-SOT223
designator U?
1.5A General Purpose LDO, Output Voltage 3.3V, SOT223 Pkg; DatasheetVersion: Rev1.10, Feb-2008; PackageVersion: 25/05/2010; PackageReference: SOT223; PackageDescription: 4-Pin SOT-223 Package, 6.5 x 3.5 mm Body, 2.3 mm Pitch, 7 mm Lead Span; ComponentLink1Description: Manufacturer URL; ComponentLink1URL: http://www.holtek.com/; ComponentLink2Description: Datasheet; ComponentLink2URL: http://www.holtek.com/pdf/consumer/1086v110.pdf; ComponentLink3Description: Package Specification; ComponentLink3URL: http://www.holtek.com/english/literature/package.pdf
footprint SOT223_N (SOT223, 4-Leads, Body 6.5x3.5mm, Pitch 2.3mm, Lead Span 7mm, IPC Medium Density)
footprint SOT223_L (SOT223, 4-Leads, Body 6.5x3.5mm, Pitch 2.3mm, Lead Span 7mm, IPC High Density)
footprint SOT223_M (SOT223, 4-Leads, Body 6.5x3.5mm, Pitch 2.3mm, Lead Span 7mm, IPC Low Density)
pins: 1 GND (power), 2 OUT (power), 3 IN (power), 4 TAB (power)

## HT1086_33-TO220
designator U?
1.5A General Purpose LDO, Output Voltage 3.3V, TO220 Pkg; DatasheetVersion: Rev1.10, Feb-2008; PackageVersion: 25/05/2010; PackageReference: TO220; PackageDescription: TO, Thru-Hole, Vertical, Heatsink Mounted; 3 In-Line Leads; Pitch 2.54 mm; ComponentLink1Description: Manufacturer URL; ComponentLink1URL: http://www.holtek.com/; ComponentLink2Description: Datasheet; ComponentLink2URL: http://www.holtek.com/pdf/consumer/1086v110.pdf; ComponentLink3Description: Package Specification; ComponentLink3URL: http://www.holtek.com/english/literature/package.pdf
footprint TO220 (TO, Thru-Hole, Vertical, Heatsink Mounted; 3 In-Line Leads; Pitch 2.54 mm)
pins: 1 GND (power), 2 OUT (power), 3 IN (power)

## HT1086_33-TO252
designator U?
1.5A General Purpose LDO, Output Voltage 3.3V, TO252 Pkg; DatasheetVersion: Rev1.10, Feb-2008; PackageVersion: 25/05/2010; PackageReference: TO252; PackageDescription: 3-Pin Transistor Outline Package, 6.1 x 6.6 x 2.3 mm Body, 2.28 mm Pitch, 10 mm Lead Span; ComponentLink1Description: Manufacturer URL; ComponentLink1URL: http://www.holtek.com/; ComponentLink2Description: Datasheet; ComponentLink2URL: http://www.holtek.com/pdf/consumer/1086v110.pdf; ComponentLink3Description: Package Specification; ComponentLink3URL: http://www.holtek.com/english/literature/package.pdf
footprint TO252_N (D-PAK, 4-Leads, Body 6.1x6.6mm, Pitch 2.28mm, Lead Span 10mm, IPC Medium Density)
footprint TO252_L (D-PAK, 4-Leads, Body 6.1x6.6mm, Pitch 2.28mm, Lead Span 10mm, IPC High Density)
footprint TO252_M (D-PAK, 4-Leads, Body 6.1x6.6mm, Pitch 2.28mm, Lead Span 10mm, IPC Low Density)
pins: 1 GND (power), 3 IN (power), 4 OUT (power)

## HT1086_33-TO263
designator U?
1.5A General Purpose LDO, Output Voltage 3.3V, TO263 Pkg; DatasheetVersion: Rev1.10, Feb-2008; PackageVersion: 25/05/2010; PackageReference: TO263; PackageDescription: 3-Pin Transistor Outline Package, 9.1 x 10.2 x 4.5 mm Body, 2.54 mm Pitch, 15.2 mm Lead Span [DD2-PAK]; ComponentLink1Description: Manufacturer URL; ComponentLink1URL: http://www.holtek.com/; ComponentLink2Description: Datasheet; ComponentLink2URL: http://www.holtek.com/pdf/consumer/1086v110.pdf; ComponentLink3Description: Package Specification; ComponentLink3URL: http://www.holtek.com/english/literature/package.pdf
footprint TO263_N (D2-PAK, 4-Leads, Body 9.1x10.2mm, Pitch 2.54mm, Lead Span 15.2mm, IPC Medium Density)
footprint TO263_L (D2-PAK, 4-Leads, Body 9.1x10.2mm, Pitch 2.54mm, Lead Span 15.2mm, IPC High Density)
footprint TO263_M (D2-PAK, 4-Leads, Body 9.1x10.2mm, Pitch 2.54mm, Lead Span 15.2mm, IPC Low Density)
pins: 1 GND (power), 3 IN (power), 4 OUT (power)

## HT1086_50-SOT223
designator U?
1.5A General Purpose LDO, Output Voltage 5.0V, SOT223 Pkg; DatasheetVersion: Rev1.10, Feb-2008; PackageVersion: 25/05/2010; PackageReference: SOT223; PackageDescription: 4-Pin SOT-223 Package, 6.5 x 3.5 mm Body, 2.3 mm Pitch, 7 mm Lead Span; ComponentLink1Description: Manufacturer URL; ComponentLink1URL: http://www.holtek.com/; ComponentLink2Description: Datasheet; ComponentLink2URL: http://www.holtek.com/pdf/consumer/1086v110.pdf; ComponentLink3Description: Package Specification; ComponentLink3URL: http://www.holtek.com/english/literature/package.pdf
footprint SOT223_N (SOT223, 4-Leads, Body 6.5x3.5mm, Pitch 2.3mm, Lead Span 7mm, IPC Medium Density)
footprint SOT223_L (SOT223, 4-Leads, Body 6.5x3.5mm, Pitch 2.3mm, Lead Span 7mm, IPC High Density)
footprint SOT223_M (SOT223, 4-Leads, Body 6.5x3.5mm, Pitch 2.3mm, Lead Span 7mm, IPC Low Density)
pins: 1 GND (power), 2 OUT (power), 3 IN (power), 4 TAB (power)

## HT1086_50-TO220
designator U?
1.5A General Purpose LDO, Output Voltage 5.0V, TO220 Pkg; DatasheetVersion: Rev1.10, Feb-2008; PackageVersion: 25/05/2010; PackageReference: TO220; PackageDescription: TO, Thru-Hole, Vertical, Heatsink Mounted; 3 In-Line Leads; Pitch 2.54 mm; ComponentLink1Description: Manufacturer URL; ComponentLink1URL: http://www.holtek.com/; ComponentLink2Description: Datasheet; ComponentLink2URL: http://www.holtek.com/pdf/consumer/1086v110.pdf; ComponentLink3Description: Package Specification; ComponentLink3URL: http://www.holtek.com/english/literature/package.pdf
footprint TO220 (TO, Thru-Hole, Vertical, Heatsink Mounted; 3 In-Line Leads; Pitch 2.54 mm)
pins: 1 GND (power), 2 OUT (power), 3 IN (power)

## HT1086_50-TO252
designator U?
1.5A General Purpose LDO, Output Voltage 5.0V, TO252 Pkg; DatasheetVersion: Rev1.10, Feb-2008; PackageVersion: 25/05/2010; PackageReference: TO252; PackageDescription: 3-Pin Transistor Outline Package, 6.1 x 6.6 x 2.3 mm Body, 2.28 mm Pitch, 10 mm Lead Span; ComponentLink1Description: Manufacturer URL; ComponentLink1URL: http://www.holtek.com/; ComponentLink2Description: Datasheet; ComponentLink2URL: http://www.holtek.com/pdf/consumer/1086v110.pdf; ComponentLink3Description: Package Specification; ComponentLink3URL: http://www.holtek.com/english/literature/package.pdf
footprint TO252_N (D-PAK, 4-Leads, Body 6.1x6.6mm, Pitch 2.28mm, Lead Span 10mm, IPC Medium Density)
footprint TO252_L (D-PAK, 4-Leads, Body 6.1x6.6mm, Pitch 2.28mm, Lead Span 10mm, IPC High Density)
footprint TO252_M (D-PAK, 4-Leads, Body 6.1x6.6mm, Pitch 2.28mm, Lead Span 10mm, IPC Low Density)
pins: 1 GND (power), 3 IN (power), 4 OUT (power)

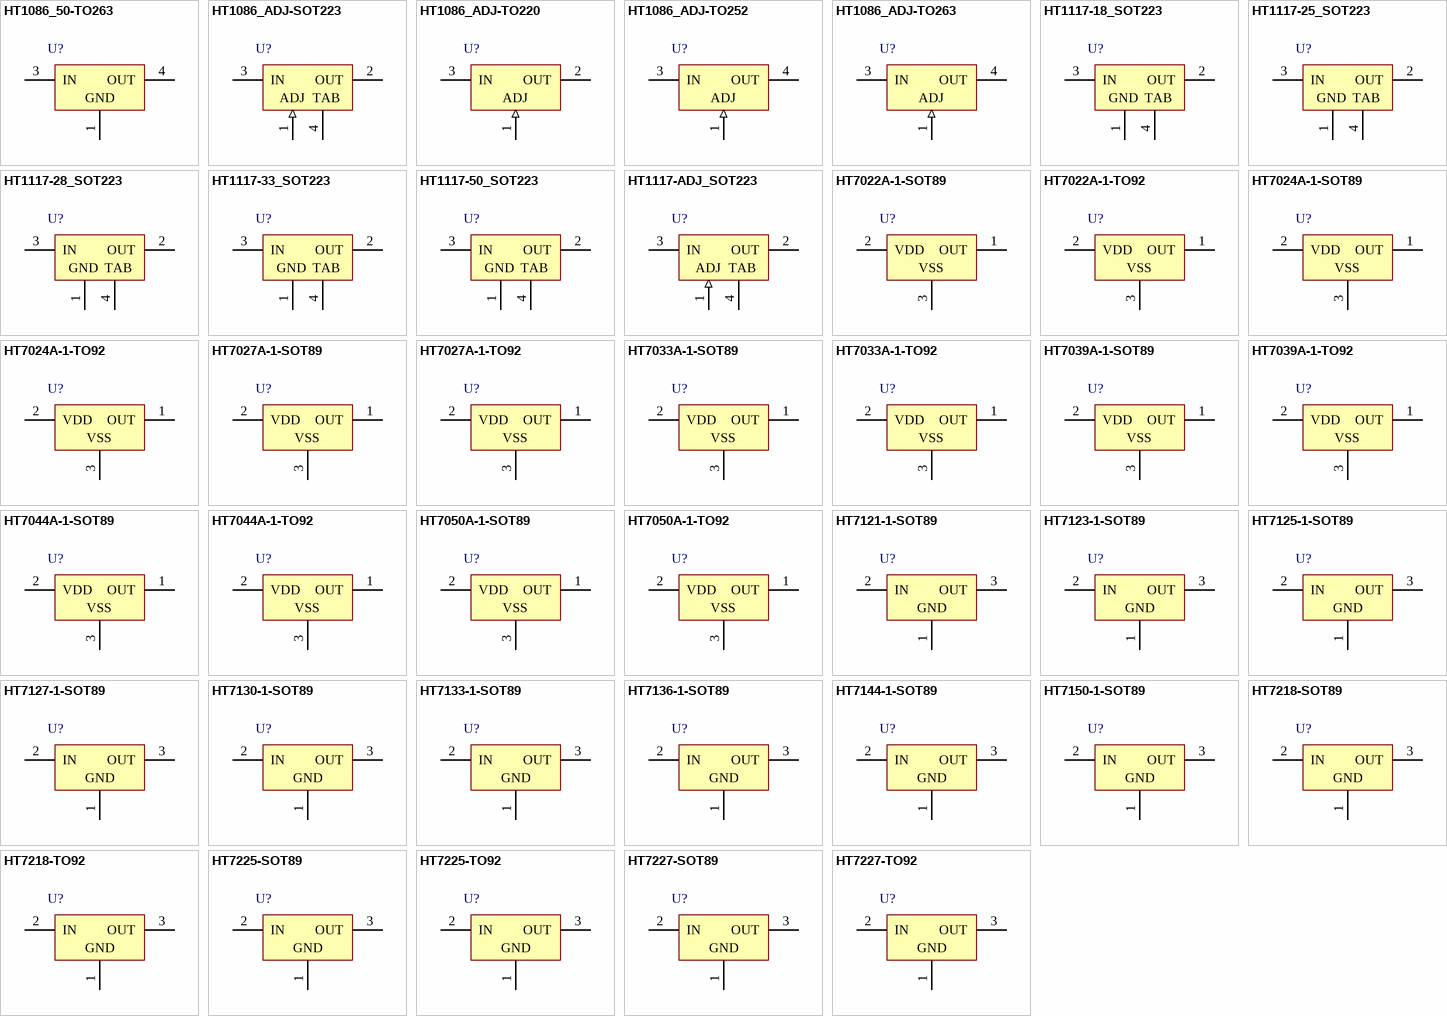
[diagram p1: symbols HT1086_50-TO263 to HT7227-TO92]

## HT1086_50-TO263
designator U?
1.5A General Purpose LDO, Output Voltage 5.0V, TO263 Pkg; DatasheetVersion: Rev1.10, Feb-2008; PackageVersion: 25/05/2010; PackageReference: TO263; PackageDescription: 3-Pin Transistor Outline Package, 9.1 x 10.2 x 4.5 mm Body, 2.54 mm Pitch, 15.2 mm Lead Span [DD2-PAK]; ComponentLink1Description: Manufacturer URL; ComponentLink1URL: http://www.holtek.com/; ComponentLink2Description: Datasheet; ComponentLink2URL: http://www.holtek.com/pdf/consumer/1086v110.pdf; ComponentLink3Description: Package Specification; ComponentLink3URL: http://www.holtek.com/english/literature/package.pdf
footprint TO263_N (D2-PAK, 4-Leads, Body 9.1x10.2mm, Pitch 2.54mm, Lead Span 15.2mm, IPC Medium Density)
footprint TO263_L (D2-PAK, 4-Leads, Body 9.1x10.2mm, Pitch 2.54mm, Lead Span 15.2mm, IPC High Density)
footprint TO263_M (D2-PAK, 4-Leads, Body 9.1x10.2mm, Pitch 2.54mm, Lead Span 15.2mm, IPC Low Density)
pins: 1 GND (power), 3 IN (power), 4 OUT (power)

## HT1086_ADJ-SOT223
designator U?
1.5A General Purpose LDO, Output Voltage Adjust, SOT223 Pkg; DatasheetVersion: Rev1.10, Feb-2008; PackageVersion: 25/05/2010; PackageReference: SOT223; PackageDescription: 4-Pin SOT-223 Package, 6.5 x 3.5 mm Body, 2.3 mm Pitch, 7 mm Lead Span; ComponentLink1Description: Manufacturer URL; ComponentLink1URL: http://www.holtek.com/; ComponentLink2Description: Datasheet; ComponentLink2URL: http://www.holtek.com/pdf/consumer/1086v110.pdf; ComponentLink3Description: Package Specification; ComponentLink3URL: http://www.holtek.com/english/literature/package.pdf
footprint SOT223_N (SOT223, 4-Leads, Body 6.5x3.5mm, Pitch 2.3mm, Lead Span 7mm, IPC Medium Density)
footprint SOT223_L (SOT223, 4-Leads, Body 6.5x3.5mm, Pitch 2.3mm, Lead Span 7mm, IPC High Density)
footprint SOT223_M (SOT223, 4-Leads, Body 6.5x3.5mm, Pitch 2.3mm, Lead Span 7mm, IPC Low Density)
pins: 1 ADJ (in), 2 OUT (power), 3 IN (power), 4 TAB (power)

## HT1086_ADJ-TO220
designator U?
1.5A General Purpose LDO, Output Voltage Adjust, TO220 Pkg; DatasheetVersion: Rev1.10, Feb-2008; PackageVersion: 25/05/2010; PackageReference: TO220; PackageDescription: TO, Thru-Hole, Vertical, Heatsink Mounted; 3 In-Line Leads; Pitch 2.54 mm; ComponentLink1Description: Manufacturer URL; ComponentLink1URL: http://www.holtek.com/; ComponentLink2Description: Datasheet; ComponentLink2URL: http://www.holtek.com/pdf/consumer/1086v110.pdf; ComponentLink3Description: Package Specification; ComponentLink3URL: http://www.holtek.com/english/literature/package.pdf
footprint TO220 (TO, Thru-Hole, Vertical, Heatsink Mounted; 3 In-Line Leads; Pitch 2.54 mm)
pins: 1 ADJ (in), 2 OUT (power), 3 IN (power)

## HT1086_ADJ-TO252
designator U?
1.5A General Purpose LDO, Output Voltage Adjust, TO252 Pkg; DatasheetVersion: Rev1.10, Feb-2008; PackageVersion: 25/05/2010; PackageReference: TO252; PackageDescription: 3-Pin Transistor Outline Package, 6.1 x 6.6 x 2.3 mm Body, 2.28 mm Pitch, 10 mm Lead Span; ComponentLink1Description: Manufacturer URL; ComponentLink1URL: http://www.holtek.com/; ComponentLink2Description: Datasheet; ComponentLink2URL: http://www.holtek.com/pdf/consumer/1086v110.pdf; ComponentLink3Description: Package Specification; ComponentLink3URL: http://www.holtek.com/english/literature/package.pdf
footprint TO252_N (D-PAK, 4-Leads, Body 6.1x6.6mm, Pitch 2.28mm, Lead Span 10mm, IPC Medium Density)
footprint TO252_L (D-PAK, 4-Leads, Body 6.1x6.6mm, Pitch 2.28mm, Lead Span 10mm, IPC High Density)
footprint TO252_M (D-PAK, 4-Leads, Body 6.1x6.6mm, Pitch 2.28mm, Lead Span 10mm, IPC Low Density)
pins: 1 ADJ (in), 3 IN (power), 4 OUT (power)

## HT1086_ADJ-TO263
designator U?
1.5A General Purpose LDO, Output Voltage Adjust, TO263 Pkg; DatasheetVersion: Rev1.10, Feb-2008; PackageVersion: 25/05/2010; PackageReference: TO263; PackageDescription: 3-Pin Transistor Outline Package, 9.1 x 10.2 x 4.5 mm Body, 2.54 mm Pitch, 15.2 mm Lead Span [DD2-PAK]; ComponentLink1Description: Manufacturer URL; ComponentLink1URL: http://www.holtek.com/; ComponentLink2Description: Datasheet; ComponentLink2URL: http://www.holtek.com/pdf/consumer/1086v110.pdf; ComponentLink3Description: Package Specification; ComponentLink3URL: http://www.holtek.com/english/literature/package.pdf
footprint TO263_N (D2-PAK, 4-Leads, Body 9.1x10.2mm, Pitch 2.54mm, Lead Span 15.2mm, IPC Medium Density)
footprint TO263_L (D2-PAK, 4-Leads, Body 9.1x10.2mm, Pitch 2.54mm, Lead Span 15.2mm, IPC High Density)
footprint TO263_M (D2-PAK, 4-Leads, Body 9.1x10.2mm, Pitch 2.54mm, Lead Span 15.2mm, IPC Low Density)
pins: 1 ADJ (in), 3 IN (power), 4 OUT (power)

## HT1117-18_SOT223
designator U?
1.8V, 1A General Purpose LDO; DatasheetVersion: rev1.10, Mar-2008; PackageVersion: 25/05/2010; PackageReference: SOT223; PackageDescription: 4-Pin SOT-223 Package, 6.5 x 3.5 mm Body, 2.3 mm Pitch, 7 mm Lead Span; ComponentLink1Description: Manufacturer URL; ComponentLink1URL: http://www.holtek.com/; ComponentLink2Description: Datasheet; ComponentLink2URL: http://www.holtek.com/pdf/consumer/1117v110.pdf; ComponentLink3Description: Package Specification; ComponentLink3URL: http://www.holtek.com/english/literature/package.pdf
footprint SOT223_N (SOT223, 4-Leads, Body 6.5x3.5mm, Pitch 2.3mm, Lead Span 7mm, IPC Medium Density)
footprint SOT223_L (SOT223, 4-Leads, Body 6.5x3.5mm, Pitch 2.3mm, Lead Span 7mm, IPC High Density)
footprint SOT223_M (SOT223, 4-Leads, Body 6.5x3.5mm, Pitch 2.3mm, Lead Span 7mm, IPC Low Density)
pins: 1 GND (power), 2 OUT (power), 3 IN (power), 4 TAB (power)

## HT1117-25_SOT223
designator U?
2.5V, 1A General Purpose LDO; DatasheetVersion: rev1.10, Mar-2008; PackageVersion: 25/05/2010; PackageReference: SOT223; PackageDescription: 4-Pin SOT-223 Package, 6.5 x 3.5 mm Body, 2.3 mm Pitch, 7 mm Lead Span; ComponentLink1Description: Manufacturer URL; ComponentLink1URL: http://www.holtek.com/; ComponentLink2Description: Datasheet; ComponentLink2URL: http://www.holtek.com/pdf/consumer/1117v110.pdf; ComponentLink3Description: Package Specification; ComponentLink3URL: http://www.holtek.com/english/literature/package.pdf
footprint SOT223_N (SOT223, 4-Leads, Body 6.5x3.5mm, Pitch 2.3mm, Lead Span 7mm, IPC Medium Density)
footprint SOT223_L (SOT223, 4-Leads, Body 6.5x3.5mm, Pitch 2.3mm, Lead Span 7mm, IPC High Density)
footprint SOT223_M (SOT223, 4-Leads, Body 6.5x3.5mm, Pitch 2.3mm, Lead Span 7mm, IPC Low Density)
pins: 1 GND (power), 2 OUT (power), 3 IN (power), 4 TAB (power)

## HT1117-28_SOT223
designator U?
2.85V, 1A General Purpose LDO; DatasheetVersion: rev1.10, Mar-2008; PackageVersion: 25/05/2010; PackageReference: SOT223; PackageDescription: 4-Pin SOT-223 Package, 6.5 x 3.5 mm Body, 2.3 mm Pitch, 7 mm Lead Span; ComponentLink1Description: Manufacturer URL; ComponentLink1URL: http://www.holtek.com/; ComponentLink2Description: Datasheet; ComponentLink2URL: http://www.holtek.com/pdf/consumer/1117v110.pdf; ComponentLink3Description: Package Specification; ComponentLink3URL: http://www.holtek.com/english/literature/package.pdf
footprint SOT223_N (SOT223, 4-Leads, Body 6.5x3.5mm, Pitch 2.3mm, Lead Span 7mm, IPC Medium Density)
footprint SOT223_L (SOT223, 4-Leads, Body 6.5x3.5mm, Pitch 2.3mm, Lead Span 7mm, IPC High Density)
footprint SOT223_M (SOT223, 4-Leads, Body 6.5x3.5mm, Pitch 2.3mm, Lead Span 7mm, IPC Low Density)
pins: 1 GND (power), 2 OUT (power), 3 IN (power), 4 TAB (power)

## HT1117-33_SOT223
designator U?
3.3V, 1A General Purpose LDO; DatasheetVersion: rev1.10, Mar-2008; PackageVersion: 25/05/2010; PackageReference: SOT223; PackageDescription: 4-Pin SOT-223 Package, 6.5 x 3.5 mm Body, 2.3 mm Pitch, 7 mm Lead Span; ComponentLink1Description: Manufacturer URL; ComponentLink1URL: http://www.holtek.com/; ComponentLink2Description: Datasheet; ComponentLink2URL: http://www.holtek.com/pdf/consumer/1117v110.pdf; ComponentLink3Description: Package Specification; ComponentLink3URL: http://www.holtek.com/english/literature/package.pdf
footprint SOT223_N (SOT223, 4-Leads, Body 6.5x3.5mm, Pitch 2.3mm, Lead Span 7mm, IPC Medium Density)
footprint SOT223_L (SOT223, 4-Leads, Body 6.5x3.5mm, Pitch 2.3mm, Lead Span 7mm, IPC High Density)
footprint SOT223_M (SOT223, 4-Leads, Body 6.5x3.5mm, Pitch 2.3mm, Lead Span 7mm, IPC Low Density)
pins: 1 GND (power), 2 OUT (power), 3 IN (power), 4 TAB (power)

## HT1117-50_SOT223
designator U?
5.0V, 1A General Purpose LDO; DatasheetVersion: rev1.10, Mar-2008; PackageVersion: 25/05/2010; PackageReference: SOT223; PackageDescription: 4-Pin SOT-223 Package, 6.5 x 3.5 mm Body, 2.3 mm Pitch, 7 mm Lead Span; ComponentLink1Description: Manufacturer URL; ComponentLink1URL: http://www.holtek.com/; ComponentLink2Description: Datasheet; ComponentLink2URL: http://www.holtek.com/pdf/consumer/1117v110.pdf; ComponentLink3Description: Package Specification; ComponentLink3URL: http://www.holtek.com/english/literature/package.pdf
footprint SOT223_N (SOT223, 4-Leads, Body 6.5x3.5mm, Pitch 2.3mm, Lead Span 7mm, IPC Medium Density)
footprint SOT223_L (SOT223, 4-Leads, Body 6.5x3.5mm, Pitch 2.3mm, Lead Span 7mm, IPC High Density)
footprint SOT223_M (SOT223, 4-Leads, Body 6.5x3.5mm, Pitch 2.3mm, Lead Span 7mm, IPC Low Density)
pins: 1 GND (power), 2 OUT (power), 3 IN (power), 4 TAB (power)

## HT1117-ADJ_SOT223
designator U?
Adjust, 1A General Purpose LDO; DatasheetVersion: rev1.10, Mar-2008; PackageVersion: 25/05/2010; PackageReference: SOT223; PackageDescription: 4-Pin SOT-223 Package, 6.5 x 3.5 mm Body, 2.3 mm Pitch, 7 mm Lead Span; ComponentLink1Description: Manufacturer URL; ComponentLink1URL: http://www.holtek.com/; ComponentLink2Description: Datasheet; ComponentLink2URL: http://www.holtek.com/pdf/consumer/1117v110.pdf; ComponentLink3Description: Package Specification; ComponentLink3URL: http://www.holtek.com/english/literature/package.pdf
footprint SOT223_N (SOT223, 4-Leads, Body 6.5x3.5mm, Pitch 2.3mm, Lead Span 7mm, IPC Medium Density)
footprint SOT223_L (SOT223, 4-Leads, Body 6.5x3.5mm, Pitch 2.3mm, Lead Span 7mm, IPC High Density)
footprint SOT223_M (SOT223, 4-Leads, Body 6.5x3.5mm, Pitch 2.3mm, Lead Span 7mm, IPC Low Density)
pins: 1 ADJ (in), 2 OUT (power), 3 IN (power), 4 TAB (power)

## HT7022A-1-SOT89
designator U?
TinyPower Voltage Detector, 2.2V Detect, SOT89 Pkg; DatasheetVersion: Rev1.5, Sep-2008; PackageVersion: 25/05/2010; PackageReference: SOT89; PackageDescription: 3-Pin SOT-89 Package 1.5 mm Pitch, 4.1 mm Lead Span; Code_IPC: SOT89; ComponentLink1Description: Manufacturer URL; ComponentLink1URL: http://www.holtek.com/; ComponentLink2Description: Datasheet; ComponentLink2URL: http://www.holtek.com/pdf/consumer/70xxa_1v150.pdf; ComponentLink3Description: Package Specification; ComponentLink3URL: http://www.holtek.com/english/literature/package.pdf
footprint SOT89_N (SOT89, 3-Leads, Body 4.5x2.4 mm, Pitch 1.5mm, Lead Span 4.1mm, IPC Medium Density)
footprint SOT89_L (SOT89, 3-Leads, Body 4.5x2.4 mm, Pitch 1.5mm, Lead Span 4.1mm, IPC High Density)
footprint SOT89_M (SOT89, 3-Leads, Body 4.5x2.4 mm, Pitch 1.5mm, Lead Span 4.1mm, IPC Low Density)
pins: 1 OUT (power), 2 VDD (power), 3 VSS (power)

## HT7022A-1-TO92
designator U?
TinyPower Voltage Detector, 2.2V Detect, TO92 Pkg; DatasheetVersion: Rev1.5, Sep-2008; PackageVersion: 25/05/2010; PackageReference: TO92; PackageDescription: 3-pin TO92, Body Dia. 4.7mm; Lead Dia. 0.51 mm (max); ComponentLink1Description: Manufacturer URL; ComponentLink1URL: http://www.holtek.com/; ComponentLink2Description: Datasheet; ComponentLink2URL: http://www.holtek.com/pdf/consumer/70xxa_1v150.pdf; ComponentLink3Description: Package Specification; ComponentLink3URL: http://www.holtek.com/english/literature/package.pdf
footprint TO92 (TO, Flat Index; 3 In-Line, Axial Leads; Body Dia. 4.7mm; Lead Dia. 0.51 mm (max))
pins: 1 OUT (power), 2 VDD (power), 3 VSS (power)

## HT7024A-1-SOT89
designator U?
TinyPower Voltage Detector, 2.4V Detect, SOT89 Pkg; DatasheetVersion: Rev1.5, Sep-2008; PackageVersion: 25/05/2010; PackageReference: SOT89; PackageDescription: 3-Pin SOT-89 Package 1.5 mm Pitch, 4.1 mm Lead Span; Code_IPC: SOT89; ComponentLink1Description: Manufacturer URL; ComponentLink1URL: http://www.holtek.com/; ComponentLink2Description: Datasheet; ComponentLink2URL: http://www.holtek.com/pdf/consumer/70xxa_1v150.pdf; ComponentLink3Description: Package Specification; ComponentLink3URL: http://www.holtek.com/english/literature/package.pdf
footprint SOT89_N (SOT89, 3-Leads, Body 4.5x2.4 mm, Pitch 1.5mm, Lead Span 4.1mm, IPC Medium Density)
footprint SOT89_L (SOT89, 3-Leads, Body 4.5x2.4 mm, Pitch 1.5mm, Lead Span 4.1mm, IPC High Density)
footprint SOT89_M (SOT89, 3-Leads, Body 4.5x2.4 mm, Pitch 1.5mm, Lead Span 4.1mm, IPC Low Density)
pins: 1 OUT (power), 2 VDD (power), 3 VSS (power)